# EAGLE library part 10067099-400LF (library Amphenol_10067099-400LF)
Amphenol 10067099-400LF micro SD card socket.
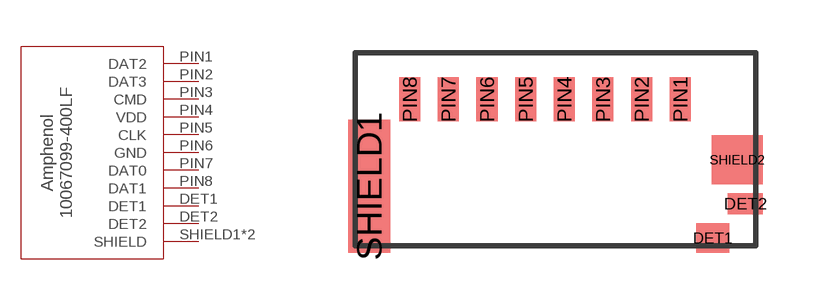
[diagram p0: symbol with the pads of 10067099-400LF; footprint 10067099-400LF]

Designator prefix -

## 10067099-400LF  [10067099-400LF]
DET1  DET1
DET2  DET2
PIN1  DAT2
PIN2  DAT3
PIN3  CMD
PIN4  VDD
PIN5  CLK
PIN6  GND
PIN7  DAT0
PIN8  DAT1
SHIELD1  SHIELD
SHIELD2  SHIELD

## Footprint 10067099-400LF (pad centres in mm)
smd 0.95 x 0.85: DET1 4.775,-5.275
smd 1 x 0.6: DET2 5.7,-4.3
smd 0.6 x 1.25: PIN1 3.85,-1.325; PIN2 2.75,-1.325; PIN3 1.65,-1.325; PIN4 0.55,-1.325; PIN5 -0.55,-1.325; PIN6 -1.65,-1.325; PIN7 -2.75,-1.325; PIN8 -3.85,-1.325
smd 1.2 x 3.79: SHIELD1 -5,-3.805
smd 1.45 x 1.4: SHIELD2 5.475,-3.05